# Altium schematic symbol library header 2.SCHLIB: 1 symbol
Pins are listed as number, name and electrical type; pins without a type are passive.

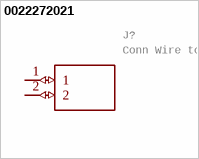
[diagram p0: symbol 0022272021]

## 0022272021
designator J?, comment Conn Wire to Board HDR 2 POS 2.54mm Solder ST Thru-Hole KK Bag   Source:  Datasheet
Manufacturer_Name: Molex; GateName_1: G$1; SymbolName_1: 0022272021; LibraryName: header 2; DeviceSetName: 0022272021; Package: SHDR2W64P0X254_1X2_508X580X117; Manufacturer_Part_Number: 0022272021; Mouser_Part_Number: N/A; Mouser_Price-Stock: https://www.mouser.co.uk/ProductDetail/Molex/0022272021?qs=PBcRNPEHKsoTuJ7eDXMaUA%3D%3D; Arrow_Part_Number: 0022272021; Arrow_Price-Stock: https://www.arrow.com/en/products/0022272021/molex; Description: Conn Wire to Board HDR 2 POS 2.54mm Solder ST Thru-Hole KK Bag; Height: 11.7mm
footprint SHDR2W64P0X254_1X2_508X580X117
pins: 1 (io), 2 (io)